# EAGLE library part SW_JUMP_4 (library Misaka-Connector)
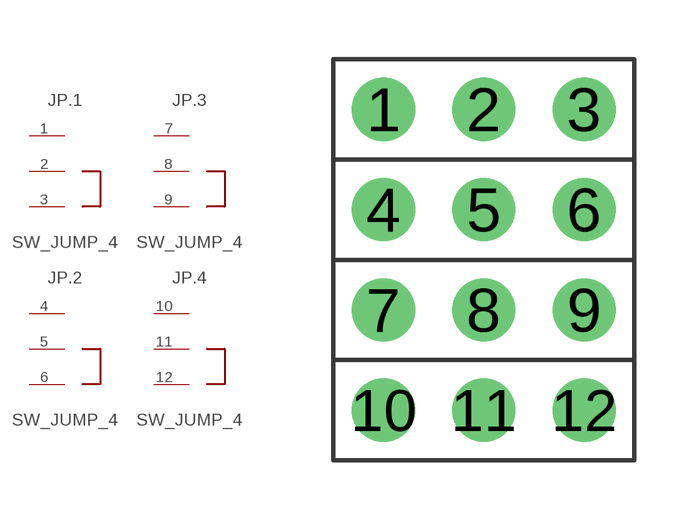
[diagram p8: symbol with the pads of PH3X04; footprint PH3X04]

Designator prefix JP; gates .1=SWITCH_JUMPER .2=SWITCH_JUMPER .3=SWITCH_JUMPER .4=SWITCH_JUMPER

## SW_JUMP_4  [PH3X04]
1  .1:1
2  .1:2
3  .1:3
4  .2:1
5  .2:2
6  .2:3
7  .3:1
8  .3:2
9  .3:3
10  .4:1
11  .4:2
12  .4:3

## Footprint PH3X04 (pad centres in mm)
drill 1 pad 1.6: 1 -2.54,3.81; 2 0,3.81; 3 2.54,3.81; 4 -2.54,1.27; 5 0,1.27; 6 2.54,1.27; 7 -2.54,-1.27; 8 0,-1.27; 9 2.54,-1.27; 10 -2.54,-3.81; 11 0,-3.81; 12 2.54,-3.81